# Altium schematic symbol library BC857B,215.Schlib: 1 symbol
Pins are listed as number, name and electrical type; pins without a type are passive.

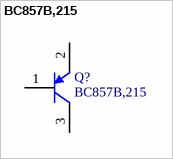
[diagram p0: symbol BC857B,215]

## BC857B,215
designator Q?
Transistors Bipolar - BJT PNP GP 100MA 45V
pins: 1 B, 2 E, 3 C